# Altium footprint library SOP-18_300mil.PcbLib: 1 footprints
Each footprint in its own frame and in the unit in brackets; x right, y up, seen from the top. Pads: shape width x height; smd on the part's side, far side on the other; paste and mask are expansions set on the pad; w line width, h text height; cw(c..) or ccw(c..) is an arc to the next point about the centre after c.
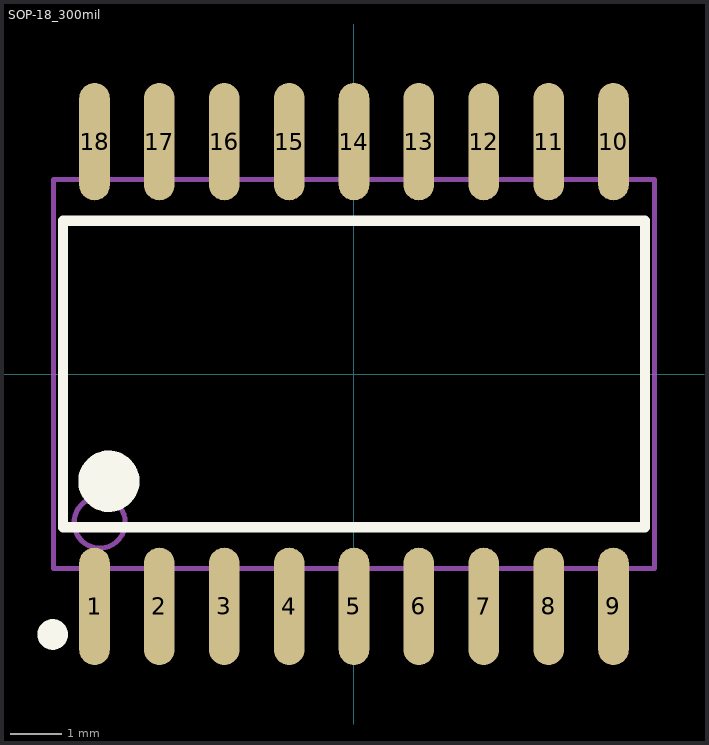
[diagram p0: the footprint, top view; thin cyan lines are the x and y axes]

## SOP-18_300mil [mm]
pads (18):
  oval 0.6x2.3 smd: 1(-5.08,-4.55) 2(-3.81,-4.55) 3(-2.54,-4.55) 4(-1.27,-4.55) 5(0,-4.55) 6(1.27,-4.55) 7(2.54,-4.55) 8(3.81,-4.55) 9(5.08,-4.55) 10(5.08,4.55) 11(3.81,4.55) 12(2.54,4.55) 13(1.27,4.55) 14(0,4.55) 15(-1.27,4.55) 16(-2.54,4.55) 17(-3.81,4.55) 18(-5.08,4.55)
Top Overlay:
  circle w0.3: c-5.9,-5.1 r0.15
  circle w0.6: c-4.8,-2.1 r0.3
  lines w0.2: -5.7,-3 -5.7,3 5.7,3 5.7,-3 -5.7,-3
Mechanical 13:
  circle w0.1: c-4.98,-2.91 r0.5
  lines w0.1: -5.88,-3.81 -5.88,3.81 5.88,3.81 5.88,-3.81 -5.88,-3.81